# EAGLE library part ATMEGA88PB-AU (library SamacSys_Parts)
AVR, 8KB FLASH, 512B EE, 1KB SRAM, TQFP Atmel ATMEGA88PB-AU, 8bit AVR Microcontroller, 20MHz, 8 kB Flash, 32-Pin TQFP Source: Datasheet <https://componentsearchengine.com/Datasheets/1/ATMEGA88PB-AU.pdf>
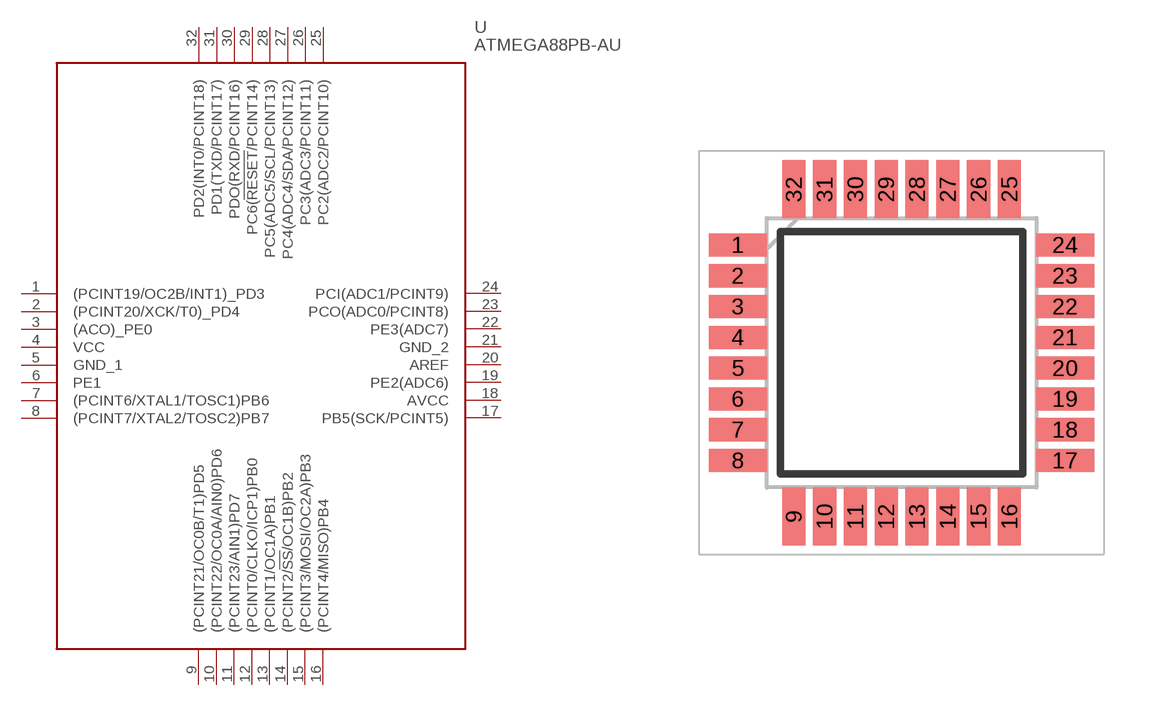
[diagram p2: symbol with the pads of QFP80P900X900X120-32N; footprint QFP80P900X900X120-32N]

Designator prefix U

## ATMEGA88PB-AU (Description: AVR, 8KB FLASH, 512B EE, 1KB SRAM, TQFP Atmel ATMEGA88PB-AU, 8bit AVR Microcontroller, 20MHz, 8 kB Flash, 32-Pin TQFP; Height: 1.2mm; Manufacturer_Name: Microchip; Manufacturer_Part_Number: ATMEGA88PB-AU; Mouser_Part_Number: 556-ATMEGA88PB-AU)  [QFP80P900X900X120-32N]
1  (PCINT19/OC2B/INT1)_PD3
2  (PCINT20/XCK/T0)_PD4
3  (ACO)_PE0
4  VCC  pwr
5  GND_1  pwr
6  PE1
7  (PCINT6/XTAL1/TOSC1)PB6
8  (PCINT7/XTAL2/TOSC2)PB7
9  (PCINT21/OC0B/T1)PD5
10  (PCINT22/OC0A/AIN0)PD6
11  (PCINT23/AIN1)PD7
12  (PCINT0/CLKO/ICP1)PB0
13  (PCINT1/OC1A)PB1
14  (PCINT2/!SS!/OC1B)PB2
15  (PCINT3/MOSI/OC2A)PB3
16  (PCINT4/MISO)PB4
17  PB5(SCK/PCINT5)
18  AVCC  pwr
19  PE2(ADC6)
20  AREF  pwr
21  GND_2  pwr
22  PE3(ADC7)
23  PCO(ADC0/PCINT8)
24  PCI(ADC1/PCINT9)
25  PC2(ADC2/PCINT10)
26  PC3(ADC3/PCINT11)
27  PC4(ADC4/SDA/PCINT12)
28  PC5(ADC5/SCL/PCINT13)
29  PC6(!RESET!/PCINT14)
30  PDO(RXD/PCINT16)
31  PD1(TXD/PCINT17)
32  PD2(INT0/PCINT18)

## Footprint QFP80P900X900X120-32N (pad centres in mm)
TQFPA
smd 1.5 x 0.6: 1 -4.25,2.8; 2 -4.25,2; 3 -4.25,1.2; 4 -4.25,0.4; 5 -4.25,-0.4; 6 -4.25,-1.2; 7 -4.25,-2; 8 -4.25,-2.8; 17 4.25,-2.8; 18 4.25,-2; 19 4.25,-1.2; 20 4.25,-0.4; 21 4.25,0.4; 22 4.25,1.2; 23 4.25,2; 24 4.25,2.8
smd 0.6 x 1.5: 9 -2.8,-4.25; 10 -2,-4.25; 11 -1.2,-4.25; 12 -0.4,-4.25; 13 0.4,-4.25; 14 1.2,-4.25; 15 2,-4.25; 16 2.8,-4.25; 25 2.8,4.25; 26 2,4.25; 27 1.2,4.25; 28 0.4,4.25; 29 -0.4,4.25; 30 -1.2,4.25; 31 -2,4.25; 32 -2.8,4.25